# Altium integrated library Elantec Amplifier Buffer.IntLib: 54 symbols
Pins are listed as number, name and electrical type; pins without a type are passive.

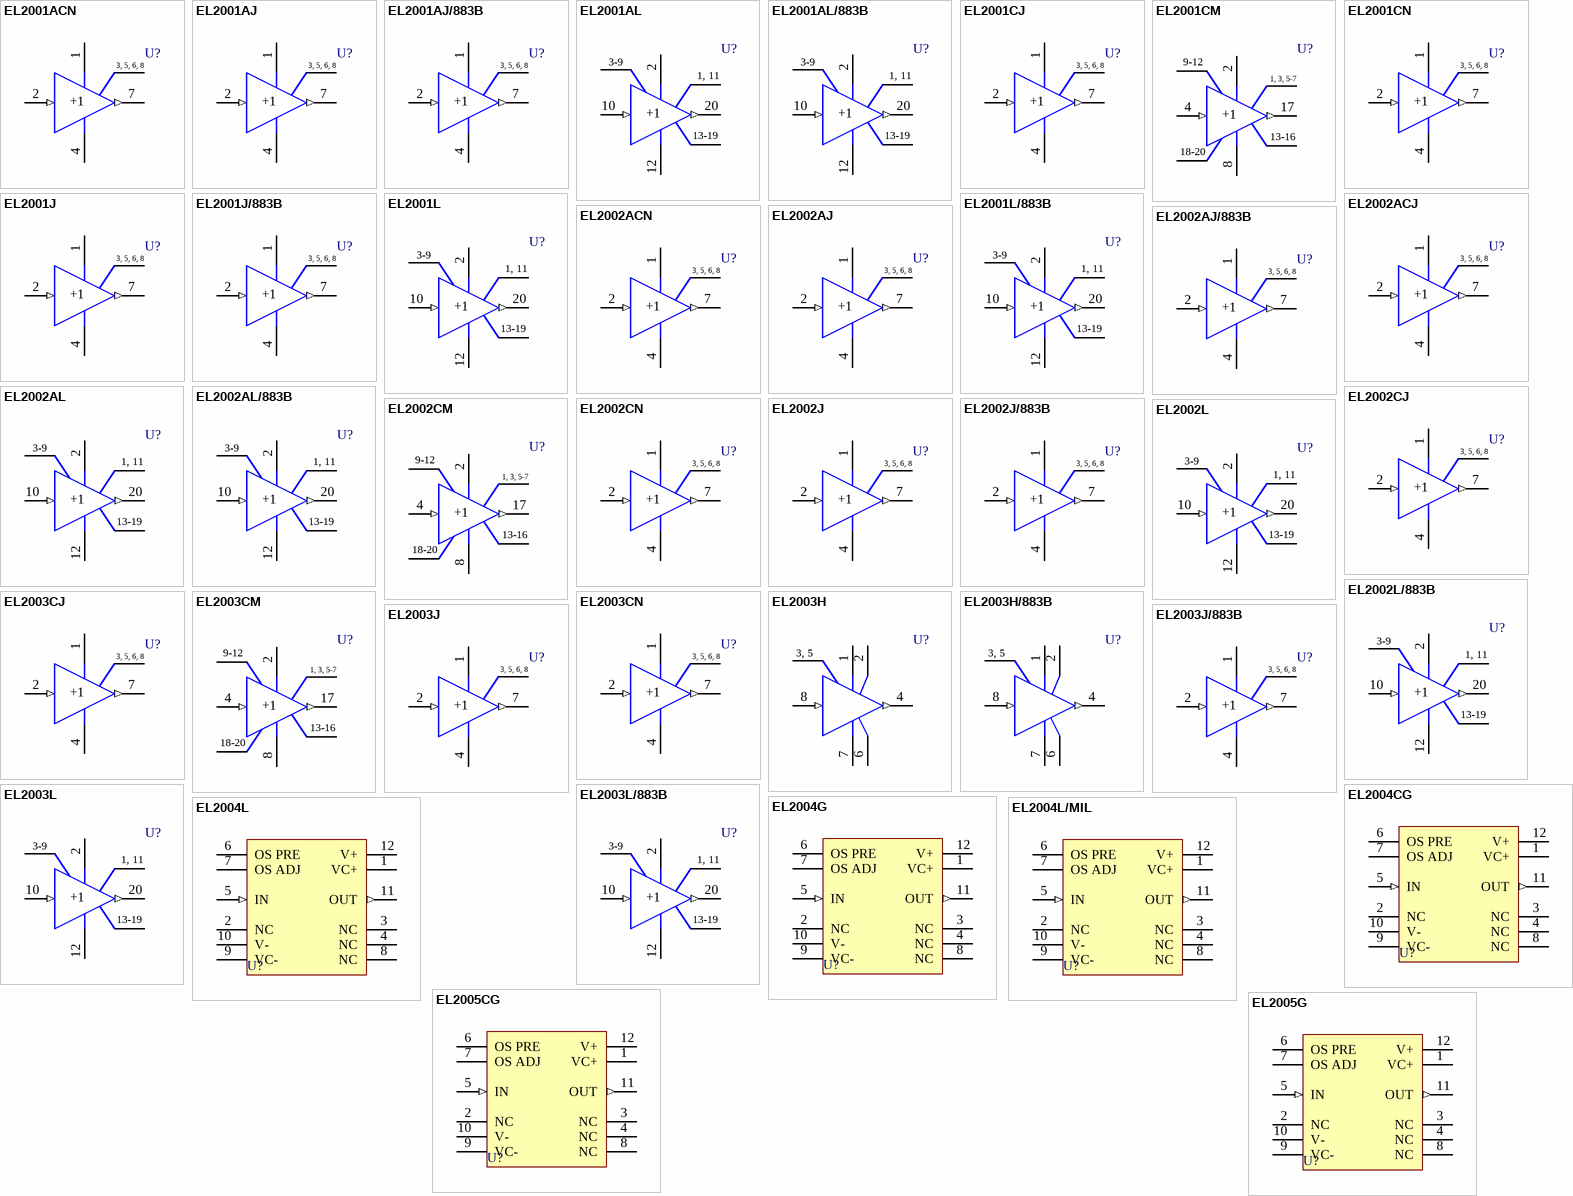
[diagram p0: symbols EL2001ACN to EL2005G]

## EL2001ACN
designator U?
Low Power, 70 MHz Buffer Amplifier; Published: 8-Jun-2000; LatestRevisionDate: 17-Jul-2002; LatestRevisionNote: Re-released for DXP Platform.; DatasheetVersion: Dec-1995; PackageReference: MDP0031-8; Publisher: Altium Limited; PackageDescription: DIP; 8 Leads; Row Spacing 7.62 mm; Pitch 2.54 mm; ComponentLink1Description: Manufacturer Link; ComponentLink1URL: http://www.intersil.com/cda/home/
footprint MDP0031-8 (DIP; 8 Leads; Row Spacing 7.62 mm; Pitch 2.54 mm)
simulation model EL2001 (SUBCKT)
pins: 1 V+ (power), 2 IN (in), 3 NC, 4 V- (power), 5 NC, 6 NC, 7 OUT (out), 8 NC
text: 3, 5, 6, 8; +1

## EL2001AJ
designator U?
Low Power, 70 MHz Buffer Amplifier; Published: 8-Jun-2000; LatestRevisionDate: 04-Mar-2005; LatestRevisionNote: Stylized 3D Model Added.; DatasheetVersion: Jul-1991; PackageReference: MDP0010; Publisher: Altium Limited; PackageDescription: DIP; 8 Leads; Row Spacing 7.62 mm; Pitch 2.54 mm; ComponentLink1Description: Manufacturer Link; ComponentLink1URL: http://www.intersil.com/cda/home/
footprint MDP0010 (DIP; 8 Leads; Row Spacing 7.62 mm; Pitch 2.54 mm)
3D model MDP0010 (DIP; 8 Leads; Row Spacing 7.62 mm; Pitch 2.54 mm)
simulation model EL2001 (SUBCKT)
pins: 1 V+ (power), 2 IN (in), 3 NC, 4 V- (power), 5 NC, 6 NC, 7 OUT (out), 8 NC
text: 3, 5, 6, 8; +1

## EL2001AJ/883B
designator U?
Low Power, 70 MHz Buffer Amplifier; Published: 8-Jun-2000; LatestRevisionDate: 04-Mar-2005; LatestRevisionNote: Stylized 3D Model Added.; DatasheetVersion: Jul-1991; PackageReference: MDP0010; Publisher: Altium Limited; PackageDescription: DIP; 8 Leads; Row Spacing 7.62 mm; Pitch 2.54 mm; ComponentLink1Description: Manufacturer Link; ComponentLink1URL: http://www.intersil.com/cda/home/
footprint MDP0010 (DIP; 8 Leads; Row Spacing 7.62 mm; Pitch 2.54 mm)
3D model MDP0010 (DIP; 8 Leads; Row Spacing 7.62 mm; Pitch 2.54 mm)
simulation model EL2001 (SUBCKT)
pins: 1 V+ (power), 2 IN (in), 3 NC, 4 V- (power), 5 NC, 6 NC, 7 OUT (out), 8 NC
text: 3, 5, 6, 8; +1

## EL2001AL
designator U?
Low Power, 70 MHz Buffer Amplifier; Published: 8-Jun-2000; LatestRevisionDate: 17-Jul-2002; LatestRevisionNote: Re-released for DXP Platform.; DatasheetVersion: Jul-1991; PackageVersion: 1993; PackageReference: MDP0007; Publisher: Altium Limited; PackageDescription: Leadless Chip Carrier; 20 Terminals; Body 8.9 x 8.9 mm; ComponentLink1Description: Manufacturer Link; ComponentLink1URL: http://www.intersil.com/cda/home/
footprint MDP0007 (Leadless Chip Carrier; 20 Terminals; Body 8.9 x 8.9 mm)
simulation model EL2001 (SUBCKT)
pins: 1 NC, 2 V+ (power), 3 NC, 4 NC, 5 NC, 6 NC, 7 NC, 8 NC, 9 NC, 10 +IN (in), 11 NC, 12 V- (power), 13 NC, 14 NC, 15 NC, 16 NC, 17 NC, 18 NC, 19 NC, 20 OUT (out)
text: 3-9; 1, 11; +1; 13-19

## EL2001AL/883B
designator U?
Low Power, 70 MHz Buffer Amplifier; Published: 8-Jun-2000; LatestRevisionDate: 17-Jul-2002; LatestRevisionNote: Re-released for DXP Platform.; DatasheetVersion: Jul-1991; PackageVersion: 1993; PackageReference: MDP0007; Publisher: Altium Limited; PackageDescription: Leadless Chip Carrier; 20 Terminals; Body 8.9 x 8.9 mm; ComponentLink1Description: Manufacturer Link; ComponentLink1URL: http://www.intersil.com/cda/home/
footprint MDP0007 (Leadless Chip Carrier; 20 Terminals; Body 8.9 x 8.9 mm)
simulation model EL2001 (SUBCKT)
pins: 1 NC, 2 V+ (power), 3 NC, 4 NC, 5 NC, 6 NC, 7 NC, 8 NC, 9 NC, 10 +IN (in), 11 NC, 12 V- (power), 13 NC, 14 NC, 15 NC, 16 NC, 17 NC, 18 NC, 19 NC, 20 OUT (out)
text: 3-9; 1, 11; +1; 13-19

## EL2001CJ
designator U?
Low Power, 70 MHz Buffer Amplifier; Published: 8-Jun-2000; LatestRevisionDate: 04-Mar-2005; LatestRevisionNote: Stylized 3D Model Added.; DatasheetVersion: Jul-1991; PackageReference: MDP0010; Publisher: Altium Limited; PackageDescription: DIP; 8 Leads; Row Spacing 7.62 mm; Pitch 2.54 mm; ComponentLink1Description: Manufacturer Link; ComponentLink1URL: http://www.intersil.com/cda/home/
footprint MDP0010 (DIP; 8 Leads; Row Spacing 7.62 mm; Pitch 2.54 mm)
3D model MDP0010 (DIP; 8 Leads; Row Spacing 7.62 mm; Pitch 2.54 mm)
simulation model EL2001 (SUBCKT)
pins: 1 V+ (power), 2 IN (in), 3 NC, 4 V- (power), 5 NC, 6 NC, 7 OUT (out), 8 NC
text: 3, 5, 6, 8; +1

## EL2001CM
designator U?
Low Power, 70 MHz Buffer Amplifier; Published: 8-Jun-2000; LatestRevisionDate: 13-Apr-2006; LatestRevisionNote: IPC-7351 Footprint Added.; DatasheetVersion: Dec-1995; PackageReference: SOL-20; Publisher: Altium Limited; PackageDescription: 20-Pin Small Outline Integrated Circuit 1.27 mm Pitch; ComponentLink1Description: Manufacturer Link; ComponentLink1URL: http://www.intersil.com/cda/home/
footprint SOL-20_N (SOIC, 20-Leads, Body 12.8x7.5mm, Pitch 1.27mm, IPC Medium Density)
footprint SOL-20_L (SOIC, 20-Leads, Body 12.8x7.5mm, Pitch 1.27mm, IPC High Density)
footprint SOL-20_M (SOIC, 20-Leads, Body 12.8x7.5mm, Pitch 1.27mm, IPC Low Density)
3D model SOL-20 (20-Pin Small Outline Integrated Circuit 1.27 mm Pitch)
simulation model EL2001 (SUBCKT)
pins: 1 NC, 2 V+ (power), 3 NC, 4 IN (in), 5 NC, 6 NC, 7 NC, 8 V- (power), 9 NC, 10 NC, 11 NC, 12 NC, 13 NC, 14 NC, 15 NC, 16 NC, 17 OUT (out), 18 NC, 19 NC, 20 NC
text: 9-12; 1, 3, 5-7; +1; 13-16; 18-20

## EL2001CN
designator U?
Low Power, 70 MHz Buffer Amplifier; Published: 8-Jun-2000; LatestRevisionDate: 17-Jul-2002; LatestRevisionNote: Re-released for DXP Platform.; DatasheetVersion: Dec-1995; PackageReference: MDP0031-8; Publisher: Altium Limited; PackageDescription: DIP; 8 Leads; Row Spacing 7.62 mm; Pitch 2.54 mm; ComponentLink1Description: Manufacturer Link; ComponentLink1URL: http://www.intersil.com/cda/home/
footprint MDP0031-8 (DIP; 8 Leads; Row Spacing 7.62 mm; Pitch 2.54 mm)
simulation model EL2001 (SUBCKT)
pins: 1 V+ (power), 2 IN (in), 3 NC, 4 V- (power), 5 NC, 6 NC, 7 OUT (out), 8 NC
text: 3, 5, 6, 8; +1

## EL2001J
designator U?
Low Power, 70 MHz Buffer Amplifier; Published: 8-Jun-2000; LatestRevisionDate: 04-Mar-2005; LatestRevisionNote: Stylized 3D Model Added.; DatasheetVersion: Jul-1991; PackageReference: MDP0010; Publisher: Altium Limited; PackageDescription: DIP; 8 Leads; Row Spacing 7.62 mm; Pitch 2.54 mm; ComponentLink1Description: Manufacturer Link; ComponentLink1URL: http://www.intersil.com/cda/home/
footprint MDP0010 (DIP; 8 Leads; Row Spacing 7.62 mm; Pitch 2.54 mm)
3D model MDP0010 (DIP; 8 Leads; Row Spacing 7.62 mm; Pitch 2.54 mm)
simulation model EL2001 (SUBCKT)
pins: 1 V+ (power), 2 IN (in), 3 NC, 4 V- (power), 5 NC, 6 NC, 7 OUT (out), 8 NC
text: 3, 5, 6, 8; +1

## EL2001J/883B
designator U?
Low Power, 70 MHz Buffer Amplifier; Published: 8-Jun-2000; LatestRevisionDate: 04-Mar-2005; LatestRevisionNote: Stylized 3D Model Added.; DatasheetVersion: Jul-1991; PackageReference: MDP0010; Publisher: Altium Limited; PackageDescription: DIP; 8 Leads; Row Spacing 7.62 mm; Pitch 2.54 mm; ComponentLink1Description: Manufacturer Link; ComponentLink1URL: http://www.intersil.com/cda/home/
footprint MDP0010 (DIP; 8 Leads; Row Spacing 7.62 mm; Pitch 2.54 mm)
3D model MDP0010 (DIP; 8 Leads; Row Spacing 7.62 mm; Pitch 2.54 mm)
simulation model EL2001 (SUBCKT)
pins: 1 V+ (power), 2 IN (in), 3 NC, 4 V- (power), 5 NC, 6 NC, 7 OUT (out), 8 NC
text: 3, 5, 6, 8; +1

## EL2001L
designator U?
Low Power, 70 MHz Buffer Amplifier; Published: 8-Jun-2000; LatestRevisionDate: 17-Jul-2002; LatestRevisionNote: Re-released for DXP Platform.; DatasheetVersion: Jul-1991; PackageVersion: 1993; PackageReference: MDP0007; Publisher: Altium Limited; PackageDescription: Leadless Chip Carrier; 20 Terminals; Body 8.9 x 8.9 mm; ComponentLink1Description: Manufacturer Link; ComponentLink1URL: http://www.intersil.com/cda/home/
footprint MDP0007 (Leadless Chip Carrier; 20 Terminals; Body 8.9 x 8.9 mm)
simulation model EL2001 (SUBCKT)
pins: 1 NC, 2 V+ (power), 3 NC, 4 NC, 5 NC, 6 NC, 7 NC, 8 NC, 9 NC, 10 +IN (in), 11 NC, 12 V- (power), 13 NC, 14 NC, 15 NC, 16 NC, 17 NC, 18 NC, 19 NC, 20 OUT (out)
text: 3-9; 1, 11; +1; 13-19

## EL2001L/883B
designator U?
Low Power, 70 MHz Buffer Amplifier; Published: 8-Jun-2000; LatestRevisionDate: 17-Jul-2002; LatestRevisionNote: Re-released for DXP Platform.; DatasheetVersion: Jul-1991; PackageVersion: 1993; PackageReference: MDP0007; Publisher: Altium Limited; PackageDescription: Leadless Chip Carrier; 20 Terminals; Body 8.9 x 8.9 mm; ComponentLink1Description: Manufacturer Link; ComponentLink1URL: http://www.intersil.com/cda/home/
footprint MDP0007 (Leadless Chip Carrier; 20 Terminals; Body 8.9 x 8.9 mm)
simulation model EL2001 (SUBCKT)
pins: 1 NC, 2 V+ (power), 3 NC, 4 NC, 5 NC, 6 NC, 7 NC, 8 NC, 9 NC, 10 +IN (in), 11 NC, 12 V- (power), 13 NC, 14 NC, 15 NC, 16 NC, 17 NC, 18 NC, 19 NC, 20 OUT (out)
text: 3-9; 1, 11; +1; 13-19

## EL2002ACJ
designator U?
Low Power, 180 MHz Buffer Amplifier; Published: 8-Jun-2000; LatestRevisionDate: 04-Mar-2005; LatestRevisionNote: Stylized 3D Model Added.; DatasheetVersion: Jul-1991; PackageReference: MDP0010; Publisher: Altium Limited; PackageDescription: DIP; 8 Leads; Row Spacing 7.62 mm; Pitch 2.54 mm; ComponentLink1Description: Manufacturer Link; ComponentLink1URL: http://www.intersil.com/cda/home/
footprint MDP0010 (DIP; 8 Leads; Row Spacing 7.62 mm; Pitch 2.54 mm)
3D model MDP0010 (DIP; 8 Leads; Row Spacing 7.62 mm; Pitch 2.54 mm)
simulation model EL2002 (SUBCKT)
pins: 1 V+ (power), 2 IN (in), 3 NC, 4 V- (power), 5 NC, 6 NC, 7 OUT (out), 8 NC
text: 3, 5, 6, 8; +1

## EL2002ACN
designator U?
Low Power, 180 MHz Buffer Amplifier; Published: 8-Jun-2000; LatestRevisionDate: 17-Jul-2002; LatestRevisionNote: Re-released for DXP Platform.; DatasheetVersion: Dec-1995; PackageReference: MDP0031-8; Publisher: Altium Limited; PackageDescription: DIP; 8 Leads; Row Spacing 7.62 mm; Pitch 2.54 mm; ComponentLink1Description: Manufacturer Link; ComponentLink1URL: http://www.intersil.com/cda/home/
footprint MDP0031-8 (DIP; 8 Leads; Row Spacing 7.62 mm; Pitch 2.54 mm)
simulation model EL2002 (SUBCKT)
pins: 1 V+ (power), 2 IN (in), 3 NC, 4 V- (power), 5 NC, 6 NC, 7 OUT (out), 8 NC
text: 3, 5, 6, 8; +1

## EL2002AJ
designator U?
Low Power, 180 MHz Buffer Amplifier; Published: 8-Jun-2000; LatestRevisionDate: 04-Mar-2005; LatestRevisionNote: Stylized 3D Model Added.; DatasheetVersion: Jul-1991; PackageReference: MDP0010; Publisher: Altium Limited; PackageDescription: DIP; 8 Leads; Row Spacing 7.62 mm; Pitch 2.54 mm; ComponentLink1Description: Manufacturer Link; ComponentLink1URL: http://www.intersil.com/cda/home/
footprint MDP0010 (DIP; 8 Leads; Row Spacing 7.62 mm; Pitch 2.54 mm)
3D model MDP0010 (DIP; 8 Leads; Row Spacing 7.62 mm; Pitch 2.54 mm)
simulation model EL2002 (SUBCKT)
pins: 1 V+ (power), 2 IN (in), 3 NC, 4 V- (power), 5 NC, 6 NC, 7 OUT (out), 8 NC
text: 3, 5, 6, 8; +1

## EL2002AJ/883B
designator U?
Low Power, 180 MHz Buffer Amplifier; Published: 8-Jun-2000; LatestRevisionDate: 04-Mar-2005; LatestRevisionNote: Stylized 3D Model Added.; DatasheetVersion: Jul-1991; PackageReference: MDP0010; Publisher: Altium Limited; PackageDescription: DIP; 8 Leads; Row Spacing 7.62 mm; Pitch 2.54 mm; ComponentLink1Description: Manufacturer Link; ComponentLink1URL: http://www.intersil.com/cda/home/
footprint MDP0010 (DIP; 8 Leads; Row Spacing 7.62 mm; Pitch 2.54 mm)
3D model MDP0010 (DIP; 8 Leads; Row Spacing 7.62 mm; Pitch 2.54 mm)
simulation model EL2002 (SUBCKT)
pins: 1 V+ (power), 2 IN (in), 3 NC, 4 V- (power), 5 NC, 6 NC, 7 OUT (out), 8 NC
text: 3, 5, 6, 8; +1

## EL2002AL
designator U?
Low Power, 180 MHz Buffer Amplifier; Published: 8-Jun-2000; LatestRevisionDate: 17-Jul-2002; LatestRevisionNote: Re-released for DXP Platform.; DatasheetVersion: Jul-1991; PackageVersion: 1993; PackageReference: MDP0007; Publisher: Altium Limited; PackageDescription: Leadless Chip Carrier; 20 Terminals; Body 8.9 x 8.9 mm; ComponentLink1Description: Manufacturer Link; ComponentLink1URL: http://www.intersil.com/cda/home/
footprint MDP0007 (Leadless Chip Carrier; 20 Terminals; Body 8.9 x 8.9 mm)
simulation model EL2002 (SUBCKT)
pins: 1 NC, 2 V+ (power), 3 NC, 4 NC, 5 NC, 6 NC, 7 NC, 8 NC, 9 NC, 10 +IN (in), 11 NC, 12 V- (power), 13 NC, 14 NC, 15 NC, 16 NC, 17 NC, 18 NC, 19 NC, 20 OUT (out)
text: 3-9; 1, 11; +1; 13-19

## EL2002AL/883B
designator U?
Low Power, 180 MHz Buffer Amplifier; Published: 8-Jun-2000; LatestRevisionDate: 17-Jul-2002; LatestRevisionNote: Re-released for DXP Platform.; DatasheetVersion: Jul-1991; PackageVersion: 1993; PackageReference: MDP0007; Publisher: Altium Limited; PackageDescription: Leadless Chip Carrier; 20 Terminals; Body 8.9 x 8.9 mm; ComponentLink1Description: Manufacturer Link; ComponentLink1URL: http://www.intersil.com/cda/home/
footprint MDP0007 (Leadless Chip Carrier; 20 Terminals; Body 8.9 x 8.9 mm)
simulation model EL2002 (SUBCKT)
pins: 1 NC, 2 V+ (power), 3 NC, 4 NC, 5 NC, 6 NC, 7 NC, 8 NC, 9 NC, 10 +IN (in), 11 NC, 12 V- (power), 13 NC, 14 NC, 15 NC, 16 NC, 17 NC, 18 NC, 19 NC, 20 OUT (out)
text: 3-9; 1, 11; +1; 13-19

## EL2002CJ
designator U?
Low Power, 180 MHz Buffer Amplifier; Published: 8-Jun-2000; LatestRevisionDate: 04-Mar-2005; LatestRevisionNote: Stylized 3D Model Added.; DatasheetVersion: Jul-1991; PackageReference: MDP0010; Publisher: Altium Limited; PackageDescription: DIP; 8 Leads; Row Spacing 7.62 mm; Pitch 2.54 mm; ComponentLink1Description: Manufacturer Link; ComponentLink1URL: http://www.intersil.com/cda/home/
footprint MDP0010 (DIP; 8 Leads; Row Spacing 7.62 mm; Pitch 2.54 mm)
3D model MDP0010 (DIP; 8 Leads; Row Spacing 7.62 mm; Pitch 2.54 mm)
simulation model EL2002 (SUBCKT)
pins: 1 V+ (power), 2 IN (in), 3 NC, 4 V- (power), 5 NC, 6 NC, 7 OUT (out), 8 NC
text: 3, 5, 6, 8; +1

## EL2002CM
designator U?
Low Power, 180 MHz Buffer Amplifier; Published: 8-Jun-2000; LatestRevisionDate: 13-Apr-2006; LatestRevisionNote: IPC-7351 Footprint Added.; DatasheetVersion: Dec-1995; PackageReference: SOL-20; Publisher: Altium Limited; PackageDescription: 20-Pin Small Outline Integrated Circuit 1.27 mm Pitch; ComponentLink1Description: Manufacturer Link; ComponentLink1URL: http://www.intersil.com/cda/home/
footprint SOL-20_N (SOIC, 20-Leads, Body 12.8x7.5mm, Pitch 1.27mm, IPC Medium Density)
footprint SOL-20_L (SOIC, 20-Leads, Body 12.8x7.5mm, Pitch 1.27mm, IPC High Density)
footprint SOL-20_M (SOIC, 20-Leads, Body 12.8x7.5mm, Pitch 1.27mm, IPC Low Density)
3D model SOL-20 (20-Pin Small Outline Integrated Circuit 1.27 mm Pitch)
simulation model EL2002 (SUBCKT)
pins: 1 NC, 2 V+ (power), 3 NC, 4 IN (in), 5 NC, 6 NC, 7 NC, 8 V- (power), 9 NC, 10 NC, 11 NC, 12 NC, 13 NC, 14 NC, 15 NC, 16 NC, 17 OUT (out), 18 NC, 19 NC, 20 NC
text: 9-12; 1, 3, 5-7; +1; 13-16; 18-20

## EL2002CN
designator U?
Low Power, 180 MHz Buffer Amplifier; Published: 8-Jun-2000; LatestRevisionDate: 17-Jul-2002; LatestRevisionNote: Re-released for DXP Platform.; DatasheetVersion: Dec-1995; PackageReference: MDP0031-8; Publisher: Altium Limited; PackageDescription: DIP; 8 Leads; Row Spacing 7.62 mm; Pitch 2.54 mm; ComponentLink1Description: Manufacturer Link; ComponentLink1URL: http://www.intersil.com/cda/home/
footprint MDP0031-8 (DIP; 8 Leads; Row Spacing 7.62 mm; Pitch 2.54 mm)
simulation model EL2002 (SUBCKT)
pins: 1 V+ (power), 2 IN (in), 3 NC, 4 V- (power), 5 NC, 6 NC, 7 OUT (out), 8 NC
text: 3, 5, 6, 8; +1

## EL2002J
designator U?
Low Power, 180 MHz Buffer Amplifier; Published: 8-Jun-2000; LatestRevisionDate: 04-Mar-2005; LatestRevisionNote: Stylized 3D Model Added.; DatasheetVersion: Jul-1991; PackageReference: MDP0010; Publisher: Altium Limited; PackageDescription: DIP; 8 Leads; Row Spacing 7.62 mm; Pitch 2.54 mm; ComponentLink1Description: Manufacturer Link; ComponentLink1URL: http://www.intersil.com/cda/home/
footprint MDP0010 (DIP; 8 Leads; Row Spacing 7.62 mm; Pitch 2.54 mm)
3D model MDP0010 (DIP; 8 Leads; Row Spacing 7.62 mm; Pitch 2.54 mm)
simulation model EL2002 (SUBCKT)
pins: 1 V+ (power), 2 IN (in), 3 NC, 4 V- (power), 5 NC, 6 NC, 7 OUT (out), 8 NC
text: 3, 5, 6, 8; +1

## EL2002J/883B
designator U?
Low Power, 180 MHz Buffer Amplifier; Published: 8-Jun-2000; LatestRevisionDate: 04-Mar-2005; LatestRevisionNote: Stylized 3D Model Added.; DatasheetVersion: Jul-1991; PackageReference: MDP0010; Publisher: Altium Limited; PackageDescription: DIP; 8 Leads; Row Spacing 7.62 mm; Pitch 2.54 mm; ComponentLink1Description: Manufacturer Link; ComponentLink1URL: http://www.intersil.com/cda/home/
footprint MDP0010 (DIP; 8 Leads; Row Spacing 7.62 mm; Pitch 2.54 mm)
3D model MDP0010 (DIP; 8 Leads; Row Spacing 7.62 mm; Pitch 2.54 mm)
simulation model EL2002 (SUBCKT)
pins: 1 V+ (power), 2 IN (in), 3 NC, 4 V- (power), 5 NC, 6 NC, 7 OUT (out), 8 NC
text: 3, 5, 6, 8; +1

## EL2002L
designator U?
Low Power, 180 MHz Buffer Amplifier; Published: 8-Jun-2000; LatestRevisionDate: 17-Jul-2002; LatestRevisionNote: Re-released for DXP Platform.; DatasheetVersion: Jul-1991; PackageVersion: 1993; PackageReference: MDP0007; Publisher: Altium Limited; PackageDescription: Leadless Chip Carrier; 20 Terminals; Body 8.9 x 8.9 mm; ComponentLink1Description: Manufacturer Link; ComponentLink1URL: http://www.intersil.com/cda/home/
footprint MDP0007 (Leadless Chip Carrier; 20 Terminals; Body 8.9 x 8.9 mm)
simulation model EL2002 (SUBCKT)
pins: 1 NC, 2 V+ (power), 3 NC, 4 NC, 5 NC, 6 NC, 7 NC, 8 NC, 9 NC, 10 +IN (in), 11 NC, 12 V- (power), 13 NC, 14 NC, 15 NC, 16 NC, 17 NC, 18 NC, 19 NC, 20 OUT (out)
text: 3-9; 1, 11; +1; 13-19

## EL2002L/883B
designator U?
Low Power, 180 MHz Buffer Amplifier; Published: 8-Jun-2000; LatestRevisionDate: 17-Jul-2002; LatestRevisionNote: Re-released for DXP Platform.; DatasheetVersion: Jul-1991; PackageVersion: 1993; PackageReference: MDP0007; Publisher: Altium Limited; PackageDescription: Leadless Chip Carrier; 20 Terminals; Body 8.9 x 8.9 mm; ComponentLink1Description: Manufacturer Link; ComponentLink1URL: http://www.intersil.com/cda/home/
footprint MDP0007 (Leadless Chip Carrier; 20 Terminals; Body 8.9 x 8.9 mm)
simulation model EL2002 (SUBCKT)
pins: 1 NC, 2 V+ (power), 3 NC, 4 NC, 5 NC, 6 NC, 7 NC, 8 NC, 9 NC, 10 +IN (in), 11 NC, 12 V- (power), 13 NC, 14 NC, 15 NC, 16 NC, 17 NC, 18 NC, 19 NC, 20 OUT (out)
text: 3-9; 1, 11; +1; 13-19

## EL2003CJ
designator U?
100 MHz Video Line Driver; Published: 8-Jun-2000; LatestRevisionDate: 04-Mar-2005; LatestRevisionNote: Stylized 3D Model Added.; DatasheetVersion: Jul-1991; PackageReference: MDP0010; Publisher: Altium Limited; PackageDescription: DIP; 8 Leads; Row Spacing 7.62 mm; Pitch 2.54 mm; ComponentLink1Description: Manufacturer Link; ComponentLink1URL: http://www.intersil.com/cda/home/
footprint MDP0010 (DIP; 8 Leads; Row Spacing 7.62 mm; Pitch 2.54 mm)
3D model MDP0010 (DIP; 8 Leads; Row Spacing 7.62 mm; Pitch 2.54 mm)
simulation model EL2003 (SUBCKT)
pins: 1 V+ (power), 2 IN (in), 3 NC, 4 V- (power), 5 NC, 6 NC, 7 OUT (out), 8 NC
text: 3, 5, 6, 8; +1

## EL2003CM
designator U?
100 MHz Video Line Driver; Published: 8-Jun-2000; LatestRevisionDate: 13-Apr-2006; LatestRevisionNote: IPC-7351 Footprint Added.; DatasheetVersion: Jan-1996; PackageReference: SOL-20; Publisher: Altium Limited; PackageDescription: 20-Pin Small Outline Integrated Circuit 1.27 mm Pitch; ComponentLink1Description: Manufacturer Link; ComponentLink1URL: http://www.intersil.com/cda/home/
footprint SOL-20_N (SOIC, 20-Leads, Body 12.8x7.5mm, Pitch 1.27mm, IPC Medium Density)
footprint SOL-20_L (SOIC, 20-Leads, Body 12.8x7.5mm, Pitch 1.27mm, IPC High Density)
footprint SOL-20_M (SOIC, 20-Leads, Body 12.8x7.5mm, Pitch 1.27mm, IPC Low Density)
3D model SOL-20 (20-Pin Small Outline Integrated Circuit 1.27 mm Pitch)
simulation model EL2003 (SUBCKT)
pins: 1 NC, 2 V+ (power), 3 NC, 4 IN (in), 5 NC, 6 NC, 7 NC, 8 V- (power), 9 NC, 10 NC, 11 NC, 12 NC, 13 NC, 14 NC, 15 NC, 16 NC, 17 OUT (out), 18 NC, 19 NC, 20 NC
text: 9-12; 1, 3, 5-7; +1; 13-16; 18-20

## EL2003CN
designator U?
100 MHz Video Line Driver; Published: 8-Jun-2000; LatestRevisionDate: 17-Jul-2002; LatestRevisionNote: Re-released for DXP Platform.; DatasheetVersion: Jan-1996; PackageReference: MDP0031-8; Publisher: Altium Limited; PackageDescription: DIP; 8 Leads; Row Spacing 7.62 mm; Pitch 2.54 mm; ComponentLink1Description: Manufacturer Link; ComponentLink1URL: http://www.intersil.com/cda/home/
footprint MDP0031-8 (DIP; 8 Leads; Row Spacing 7.62 mm; Pitch 2.54 mm)
simulation model EL2003 (SUBCKT)
pins: 1 V+ (power), 2 IN (in), 3 NC, 4 V- (power), 5 NC, 6 NC, 7 OUT (out), 8 NC
text: 3, 5, 6, 8; +1

## EL2003H
designator U?
100 MHz Video Line Driver; Note: Pins 3 and 5 are No Connection; Published: 8-Jun-2000; LatestRevisionDate: 17-Jul-2002; LatestRevisionNote: Re-released for DXP Platform.; DatasheetVersion: Jul-1991; PackageVersion: 1993; PackageReference: MDP0004; Publisher: Altium Limited; PackageDescription: Can; 8 Leads; Pin Circle Dia. 5.08 mm; Lead Dia. 0.53 mm (max); ComponentLink1Description: Manufacturer Link; ComponentLink1URL: http://www.intersil.com/cda/home/
footprint MDP0004 (Can; 8 Leads; Pin Circle Dia. 5.08 mm; Lead Dia. 0.53 mm (max))
simulation model EL2003 (SUBCKT)
pins: 1 V1+ (power), 2 V2+ (power), 3 NC, 4 OUT (out), 5 NC, 6 V2- (power), 7 V1- (power), 8 IN (in)
text: 3, 5

## EL2003H/883B
designator U?
100 MHz Video Line Driver; Note: Pins 3 and 5 are No Connection; Published: 8-Jun-2000; LatestRevisionDate: 17-Jul-2002; LatestRevisionNote: Re-released for DXP Platform.; DatasheetVersion: Jul-1991; PackageVersion: 1993; PackageReference: MDP0004; Publisher: Altium Limited; PackageDescription: Can; 8 Leads; Pin Circle Dia. 5.08 mm; Lead Dia. 0.53 mm (max); ComponentLink1Description: Manufacturer Link; ComponentLink1URL: http://www.intersil.com/cda/home/
footprint MDP0004 (Can; 8 Leads; Pin Circle Dia. 5.08 mm; Lead Dia. 0.53 mm (max))
simulation model EL2003 (SUBCKT)
pins: 1 V1+ (power), 2 V2+ (power), 3 NC, 4 OUT (out), 5 NC, 6 V2- (power), 7 V1- (power), 8 IN (in)
text: 3, 5

## EL2003J
designator U?
100 MHz Video Line Driver; Published: 8-Jun-2000; LatestRevisionDate: 04-Mar-2005; LatestRevisionNote: Stylized 3D Model Added.; DatasheetVersion: Jul-1991; PackageReference: MDP0010; Publisher: Altium Limited; PackageDescription: DIP; 8 Leads; Row Spacing 7.62 mm; Pitch 2.54 mm; ComponentLink1Description: Manufacturer Link; ComponentLink1URL: http://www.intersil.com/cda/home/
footprint MDP0010 (DIP; 8 Leads; Row Spacing 7.62 mm; Pitch 2.54 mm)
3D model MDP0010 (DIP; 8 Leads; Row Spacing 7.62 mm; Pitch 2.54 mm)
simulation model EL2003 (SUBCKT)
pins: 1 V+ (power), 2 IN (in), 3 NC, 4 V- (power), 5 NC, 6 NC, 7 OUT (out), 8 NC
text: 3, 5, 6, 8; +1

## EL2003J/883B
designator U?
100 MHz Video Line Driver; Published: 8-Jun-2000; LatestRevisionDate: 04-Mar-2005; LatestRevisionNote: Stylized 3D Model Added.; DatasheetVersion: Jul-1991; PackageReference: MDP0010; Publisher: Altium Limited; PackageDescription: DIP; 8 Leads; Row Spacing 7.62 mm; Pitch 2.54 mm; ComponentLink1Description: Manufacturer Link; ComponentLink1URL: http://www.intersil.com/cda/home/
footprint MDP0010 (DIP; 8 Leads; Row Spacing 7.62 mm; Pitch 2.54 mm)
3D model MDP0010 (DIP; 8 Leads; Row Spacing 7.62 mm; Pitch 2.54 mm)
simulation model EL2003 (SUBCKT)
pins: 1 V+ (power), 2 IN (in), 3 NC, 4 V- (power), 5 NC, 6 NC, 7 OUT (out), 8 NC
text: 3, 5, 6, 8; +1

## EL2003L
designator U?
100 MHz Video Line Driver; Published: 8-Jun-2000; LatestRevisionDate: 17-Jul-2002; LatestRevisionNote: Re-released for DXP Platform.; DatasheetVersion: Jul-1991; PackageVersion: 1993; PackageReference: MDP0007; Publisher: Altium Limited; PackageDescription: Leadless Chip Carrier; 20 Terminals; Body 8.9 x 8.9 mm; ComponentLink1Description: Manufacturer Link; ComponentLink1URL: http://www.intersil.com/cda/home/
footprint MDP0007 (Leadless Chip Carrier; 20 Terminals; Body 8.9 x 8.9 mm)
simulation model EL2003 (SUBCKT)
pins: 1 NC, 2 V+ (power), 3 NC, 4 NC, 5 NC, 6 NC, 7 NC, 8 NC, 9 NC, 10 +IN (in), 11 NC, 12 V- (power), 13 NC, 14 NC, 15 NC, 16 NC, 17 NC, 18 NC, 19 NC, 20 OUT (out)
text: 3-9; 1, 11; +1; 13-19

## EL2003L/883B
designator U?
100 MHz Video Line Driver; Published: 8-Jun-2000; LatestRevisionDate: 17-Jul-2002; LatestRevisionNote: Re-released for DXP Platform.; DatasheetVersion: Jul-1991; PackageVersion: 1993; PackageReference: MDP0007; Publisher: Altium Limited; PackageDescription: Leadless Chip Carrier; 20 Terminals; Body 8.9 x 8.9 mm; ComponentLink1Description: Manufacturer Link; ComponentLink1URL: http://www.intersil.com/cda/home/
footprint MDP0007 (Leadless Chip Carrier; 20 Terminals; Body 8.9 x 8.9 mm)
simulation model EL2003 (SUBCKT)
pins: 1 NC, 2 V+ (power), 3 NC, 4 NC, 5 NC, 6 NC, 7 NC, 8 NC, 9 NC, 10 +IN (in), 11 NC, 12 V- (power), 13 NC, 14 NC, 15 NC, 16 NC, 17 NC, 18 NC, 19 NC, 20 OUT (out)
text: 3-9; 1, 11; +1; 13-19

## EL2004CG
designator U?
350 MHz FET Buffer; Published: 8-Jun-2000; LatestRevisionDate: 17-Jul-2002; LatestRevisionNote: Re-released for DXP Platform.; DatasheetVersion: Nov-1993; PackageVersion: 1993; PackageReference: MDP0002; Publisher: Altium Limited; PackageDescription: Can; 12 Leads; 10.16 mm Square Array; Lead Dia. 0.48 mm (max); ComponentLink1Description: Manufacturer Link; ComponentLink1URL: http://www.intersil.com/cda/home/
footprint MDP0002 (Can; 12 Leads; 10.16 mm Square Array; Lead Dia. 0.48 mm (max))
pins: 1 VC+, 2 NC, 3 NC, 4 NC, 5 IN (in), 6 OS PRE, 7 OS ADJ, 8 NC, 9 VC- (power), 10 V- (power), 11 OUT (out), 12 V+

## EL2004G
designator U?
350 MHz FET Buffer; Published: 8-Jun-2000; LatestRevisionDate: 17-Jul-2002; LatestRevisionNote: Re-released for DXP Platform.; DatasheetVersion: Nov-1993; PackageVersion: 1993; PackageReference: MDP0002; Publisher: Altium Limited; PackageDescription: Can; 12 Leads; 10.16 mm Square Array; Lead Dia. 0.48 mm (max); ComponentLink1Description: Manufacturer Link; ComponentLink1URL: http://www.intersil.com/cda/home/
footprint MDP0002 (Can; 12 Leads; 10.16 mm Square Array; Lead Dia. 0.48 mm (max))
pins: 1 VC+, 2 NC, 3 NC, 4 NC, 5 IN (in), 6 OS PRE, 7 OS ADJ, 8 NC, 9 VC- (power), 10 V- (power), 11 OUT (out), 12 V+

## EL2004L
designator U?
350 MHz FET Buffer; Published: 8-Jun-2000; LatestRevisionDate: 17-Jul-2002; LatestRevisionNote: Re-released for DXP Platform.; DatasheetVersion: Nov-1993; PackageVersion: 1993; PackageReference: MDP0013; Publisher: Altium Limited; PackageDescription: Leadless Chip Carrier; 52 Terminals; Body 19.1 x 19.1 mm; ComponentLink1Description: Manufacturer Link; ComponentLink1URL: http://www.intersil.com/cda/home/
footprint MDP0013 (Leadless Chip Carrier; 52 Terminals; Body 19.1 x 19.1 mm)
pins: 1 VC+, 2 NC, 3 NC, 4 NC, 5 IN (in), 6 OS PRE, 7 OS ADJ, 8 NC, 9 VC- (power), 10 V- (power), 11 OUT (out), 12 V+

## EL2004L/MIL
designator U?
350 MHz FET Buffer; Published: 8-Jun-2000; LatestRevisionDate: 17-Jul-2002; LatestRevisionNote: Re-released for DXP Platform.; DatasheetVersion: Nov-1993; PackageVersion: 1993; PackageReference: MDP0013; Publisher: Altium Limited; PackageDescription: Leadless Chip Carrier; 52 Terminals; Body 19.1 x 19.1 mm; ComponentLink1Description: Manufacturer Link; ComponentLink1URL: http://www.intersil.com/cda/home/
footprint MDP0013 (Leadless Chip Carrier; 52 Terminals; Body 19.1 x 19.1 mm)
pins: 1 VC+, 2 NC, 3 NC, 4 NC, 5 IN (in), 6 OS PRE, 7 OS ADJ, 8 NC, 9 VC- (power), 10 V- (power), 11 OUT (out), 12 V+

## EL2005CG
designator U?
High Accuracy Fast Buffer; Note: Case is electrically isolated.; Published: 8-Jun-2000; LatestRevisionDate: 17-Jul-2002; LatestRevisionNote: Re-released for DXP Platform.; DatasheetVersion: Jan-1990; PackageVersion: 1993; PackageReference: MDP0002; Publisher: Altium Limited; PackageDescription: Can; 12 Leads; 10.16 mm Square Array; Lead Dia. 0.48 mm (max); ComponentLink1Description: Manufacturer Link; ComponentLink1URL: http://www.intersil.com/cda/home/
footprint MDP0002 (Can; 12 Leads; 10.16 mm Square Array; Lead Dia. 0.48 mm (max))
pins: 1 VC+, 2 NC, 3 NC, 4 NC, 5 IN (in), 6 OS PRE, 7 OS ADJ, 8 NC, 9 VC- (power), 10 V- (power), 11 OUT (out), 12 V+

## EL2005G
designator U?
High Accuracy Fast Buffer; Note: Case is electrically isolated.; Published: 8-Jun-2000; LatestRevisionDate: 17-Jul-2002; LatestRevisionNote: Re-released for DXP Platform.; DatasheetVersion: Jan-1990; PackageVersion: 1993; PackageReference: MDP0002; Publisher: Altium Limited; PackageDescription: Can; 12 Leads; 10.16 mm Square Array; Lead Dia. 0.48 mm (max); ComponentLink1Description: Manufacturer Link; ComponentLink1URL: http://www.intersil.com/cda/home/
footprint MDP0002 (Can; 12 Leads; 10.16 mm Square Array; Lead Dia. 0.48 mm (max))
pins: 1 VC+, 2 NC, 3 NC, 4 NC, 5 IN (in), 6 OS PRE, 7 OS ADJ, 8 NC, 9 VC- (power), 10 V- (power), 11 OUT (out), 12 V+

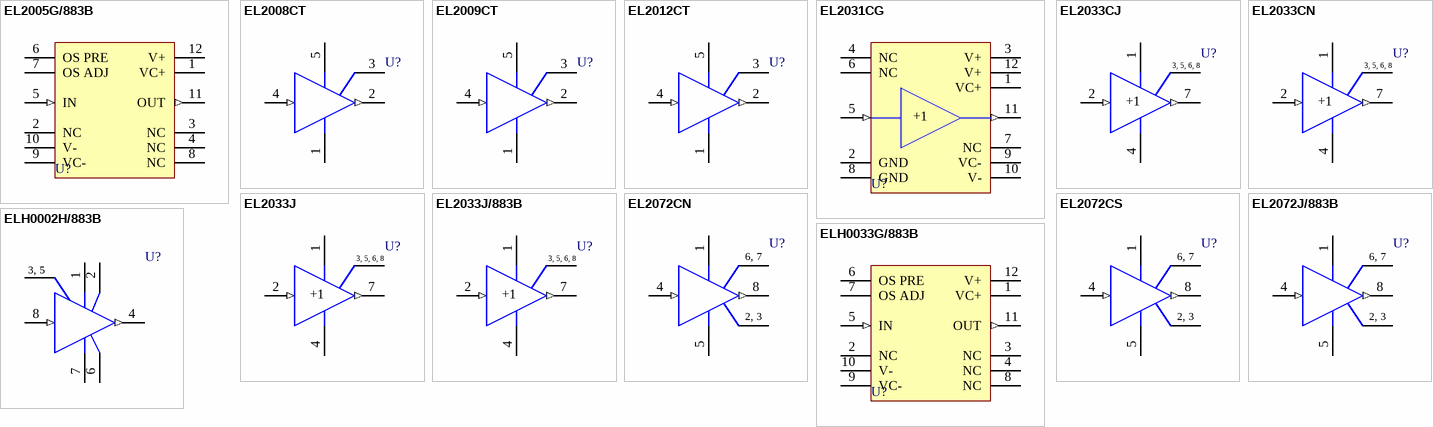
[diagram p1: symbols EL2005G/883B to ELH0033G/883B]

## EL2005G/883B
designator U?
High Accuracy Fast Buffer; Note: Case is electrically isolated.; Published: 8-Jun-2000; LatestRevisionDate: 17-Jul-2002; LatestRevisionNote: Re-released for DXP Platform.; DatasheetVersion: Jan-1990; PackageVersion: 1993; PackageReference: MDP0002; Publisher: Altium Limited; PackageDescription: Can; 12 Leads; 10.16 mm Square Array; Lead Dia. 0.48 mm (max); ComponentLink1Description: Manufacturer Link; ComponentLink1URL: http://www.intersil.com/cda/home/
footprint MDP0002 (Can; 12 Leads; 10.16 mm Square Array; Lead Dia. 0.48 mm (max))
pins: 1 VC+, 2 NC, 3 NC, 4 NC, 5 IN (in), 6 OS PRE, 7 OS ADJ, 8 NC, 9 VC- (power), 10 V- (power), 11 OUT (out), 12 V+

## EL2008CT
designator U?
55 MHz 1 Amp Buffer Amplifier; Published: 8-Jun-2000; LatestRevisionDate: 17-Jul-2002; LatestRevisionNote: PCB Footprint 'DFM-T5/Y2.2V' Replaced; Re-released for DXP Platform.; DatasheetVersion: Dec-1995; PackageVersion: 1997; PackageReference: MDP0028; Publisher: Altium Limited; PackageDescription: TO, Thru-Hole, Vertical, Heatsink Mounted; 5 Bent Staggered Leads; Pitch 1.7 mm; ComponentLink1Description: Manufacturer Link; ComponentLink1URL: http://www.intersil.com/cda/home/
footprint MDP0028 (TO, Thru-Hole, Vertical, Heatsink Mounted; 5 Bent Staggered Leads; Pitch 1.7 mm)
simulation model EL2008 (SUBCKT)
pins: 1 V- (power), 2 OUT (out), 3 TAB, 4 IN (in), 5 V+ (power)

## EL2009CT
designator U?
90 MHz 1 Amp Buffer Amplifier; Published: 8-Jun-2000; LatestRevisionDate: 17-Jul-2002; LatestRevisionNote: PCB Footprint 'DFM-T5/Y2.2V' Replaced; Re-released for DXP Platform.; DatasheetVersion: Dec-1995; PackageVersion: 1997; PackageReference: MDP0028; Publisher: Altium Limited; PackageDescription: TO, Thru-Hole, Vertical, Heatsink Mounted; 5 Bent Staggered Leads; Pitch 1.7 mm; ComponentLink1Description: Manufacturer Link; ComponentLink1URL: http://www.intersil.com/cda/home/
footprint MDP0028 (TO, Thru-Hole, Vertical, Heatsink Mounted; 5 Bent Staggered Leads; Pitch 1.7 mm)
simulation model EL2009 (SUBCKT)
pins: 1 V- (power), 2 OUT (out), 3 TAB, 4 IN (in), 5 V+ (power)

## EL2012CT
designator U?
Closed Loop Buffer; Published: 8-Jun-2000; LatestRevisionDate: 17-Jul-2002; LatestRevisionNote: PCB Footprint 'DFM-T5/Y2.2V' Replaced; Re-released for DXP Platform.; DatasheetVersion: Jul-1991; PackageVersion: 1997; PackageReference: MDP0028; Publisher: Altium Limited; PackageDescription: TO, Thru-Hole, Vertical, Heatsink Mounted; 5 Bent Staggered Leads; Pitch 1.7 mm; ComponentLink1Description: Manufacturer Link; ComponentLink1URL: http://www.intersil.com/cda/home/
footprint MDP0028 (TO, Thru-Hole, Vertical, Heatsink Mounted; 5 Bent Staggered Leads; Pitch 1.7 mm)
pins: 1 V- (power), 2 OUT (out), 3 TAB, 4 IN (in), 5 V+ (power)

## EL2031CG
designator U?
550 MHz Buffer Amplifier; Published: 8-Jun-2000; LatestRevisionDate: 17-Jul-2002; LatestRevisionNote: Re-released for DXP Platform.; DatasheetVersion: Jul-1991; PackageVersion: 1993; PackageReference: MDP0026; Publisher: Altium Limited; PackageDescription: Can; 12 Leads; 10.16 mm Square Array; Lead Dia. 0.48 mm (max); ComponentLink1Description: Manufacturer Link; ComponentLink1URL: http://www.intersil.com/cda/home/
footprint MDP0026 (Can; 12 Leads; 10.16 mm Square Array; Lead Dia. 0.48 mm (max))
pins: 1 VC+ (power), 2 GND (power), 3 V+ (power), 4 NC, 5 IN (in), 6 NC, 7 NC, 8 GND (power), 9 VC- (power), 10 V- (power), 11 OUT (out), 12 V+ (power)
text: +1

## EL2033CJ
designator U?
100 MHz Video Line Driver; Published: 8-Jun-2000; LatestRevisionDate: 04-Mar-2005; LatestRevisionNote: Stylized 3D Model Added.; DatasheetVersion: Jul-1991; PackageReference: MDP0010; Publisher: Altium Limited; PackageDescription: DIP; 8 Leads; Row Spacing 7.62 mm; Pitch 2.54 mm; ComponentLink1Description: Manufacturer Link; ComponentLink1URL: http://www.intersil.com/cda/home/
footprint MDP0010 (DIP; 8 Leads; Row Spacing 7.62 mm; Pitch 2.54 mm)
3D model MDP0010 (DIP; 8 Leads; Row Spacing 7.62 mm; Pitch 2.54 mm)
pins: 1 V+ (power), 2 IN (in), 3 NC, 4 V- (power), 5 NC, 6 NC, 7 OUT (out), 8 NC
text: 3, 5, 6, 8; +1

## EL2033CN
designator U?
100 MHz Video Line Driver; Published: 8-Jun-2000; LatestRevisionDate: 17-Jul-2002; LatestRevisionNote: Re-released for DXP Platform.; DatasheetVersion: Jan-1996; PackageReference: MDP0031-8; Publisher: Altium Limited; PackageDescription: DIP; 8 Leads; Row Spacing 7.62 mm; Pitch 2.54 mm; ComponentLink1Description: Manufacturer Link; ComponentLink1URL: http://www.intersil.com/cda/home/
footprint MDP0031-8 (DIP; 8 Leads; Row Spacing 7.62 mm; Pitch 2.54 mm)
pins: 1 V+ (power), 2 IN (in), 3 NC, 4 V- (power), 5 NC, 6 NC, 7 OUT (out), 8 NC
text: 3, 5, 6, 8; +1

## EL2033J
designator U?
100 MHz Video Line Driver; Published: 8-Jun-2000; LatestRevisionDate: 04-Mar-2005; LatestRevisionNote: Stylized 3D Model Added.; DatasheetVersion: Jul-1991; PackageReference: MDP0010; Publisher: Altium Limited; PackageDescription: DIP; 8 Leads; Row Spacing 7.62 mm; Pitch 2.54 mm; ComponentLink1Description: Manufacturer Link; ComponentLink1URL: http://www.intersil.com/cda/home/
footprint MDP0010 (DIP; 8 Leads; Row Spacing 7.62 mm; Pitch 2.54 mm)
3D model MDP0010 (DIP; 8 Leads; Row Spacing 7.62 mm; Pitch 2.54 mm)
pins: 1 V+ (power), 2 IN (in), 3 NC, 4 V- (power), 5 NC, 6 NC, 7 OUT (out), 8 NC
text: 3, 5, 6, 8; +1

## EL2033J/883B
designator U?
100 MHz Video Line Driver; Published: 8-Jun-2000; LatestRevisionDate: 04-Mar-2005; LatestRevisionNote: Stylized 3D Model Added.; DatasheetVersion: Jul-1991; PackageReference: MDP0010; Publisher: Altium Limited; PackageDescription: DIP; 8 Leads; Row Spacing 7.62 mm; Pitch 2.54 mm; ComponentLink1Description: Manufacturer Link; ComponentLink1URL: http://www.intersil.com/cda/home/
footprint MDP0010 (DIP; 8 Leads; Row Spacing 7.62 mm; Pitch 2.54 mm)
3D model MDP0010 (DIP; 8 Leads; Row Spacing 7.62 mm; Pitch 2.54 mm)
pins: 1 V+ (power), 2 IN (in), 3 NC, 4 V- (power), 5 NC, 6 NC, 7 OUT (out), 8 NC
text: 3, 5, 6, 8; +1

## EL2072CN
designator U?
730 MHz Closed Loop Buffer; Published: 8-Jun-2000; LatestRevisionDate: 17-Jul-2002; LatestRevisionNote: Re-released for DXP Platform.; DatasheetVersion: Dec-1995; PackageReference: MDP0031-8; Publisher: Altium Limited; PackageDescription: DIP; 8 Leads; Row Spacing 7.62 mm; Pitch 2.54 mm; ComponentLink1Description: Manufacturer Link; ComponentLink1URL: http://www.intersil.com/cda/home/
footprint MDP0031-8 (DIP; 8 Leads; Row Spacing 7.62 mm; Pitch 2.54 mm)
pins: 1 V+ (power), 2 NC, 3 NC, 4 IN (in), 5 V- (power), 6 NC, 7 NC, 8 OUT (out)
text: 6, 7; 2, 3

## EL2072CS
designator U?
730 MHz Closed Loop Buffer; Published: 8-Jun-2000; LatestRevisionDate: 13-Apr-2006; LatestRevisionNote: IPC-7351 Footprint Added.; DatasheetVersion: Dec-1995; PackageReference: SO-8; Publisher: Altium Limited; PackageDescription: 8-Pin Small Outline Integrated Circuit 1.27 mm Pitch; ComponentLink1Description: Manufacturer Link; ComponentLink1URL: http://www.intersil.com/cda/home/
footprint SO-8_N (SOIC, 8-Leads, Body 4.9x3.9mm, Pitch 1.27mm, IPC Medium Density)
footprint SO-8_L (SOIC, 8-Leads, Body 4.9x3.9mm, Pitch 1.27mm, IPC High Density)
footprint SO-8_M (SOIC, 8-Leads, Body 4.9x3.9mm, Pitch 1.27mm, IPC Low Density)
3D model SO-8 (8-Pin Small Outline Integrated Circuit 1.27 mm Pitch)
pins: 1 V+ (power), 2 NC, 3 NC, 4 IN (in), 5 V- (power), 6 NC, 7 NC, 8 OUT (out)
text: 6, 7; 2, 3

## EL2072J/883B
designator U?
730 MHz Closed Loop Buffer; Published: 8-Jun-2000; LatestRevisionDate: 04-Mar-2005; LatestRevisionNote: Stylized 3D Model Added.; DatasheetVersion: Aug-1992; PackageReference: MDP0010; Publisher: Altium Limited; PackageDescription: DIP; 8 Leads; Row Spacing 7.62 mm; Pitch 2.54 mm; ComponentLink1Description: Manufacturer Link; ComponentLink1URL: http://www.intersil.com/cda/home/
footprint MDP0010 (DIP; 8 Leads; Row Spacing 7.62 mm; Pitch 2.54 mm)
3D model MDP0010 (DIP; 8 Leads; Row Spacing 7.62 mm; Pitch 2.54 mm)
pins: 1 V+ (power), 2 NC, 3 NC, 4 IN (in), 5 V- (power), 6 NC, 7 NC, 8 OUT (out)
text: 6, 7; 2, 3

## ELH0002H/883B
designator U?
Current Amplifier; Note: Case is electrically isolated.; Published: 8-Jun-2000; LatestRevisionDate: 17-Jul-2002; LatestRevisionNote: Re-released for DXP Platform.; DatasheetVersion: Jul-1991; PackageVersion: 1993; PackageReference: MDP0001; Publisher: Altium Limited; PackageDescription: Can; 8 Leads; Pin Circle Dia. 5.84 mm; Lead Dia. 0.48 mm (max); ComponentLink1Description: Manufacturer Link; ComponentLink1URL: http://www.intersil.com/cda/home/
footprint MDP0001 (Can; 8 Leads; Pin Circle Dia. 5.84 mm; Lead Dia. 0.48 mm (max))
pins: 1 V1+ (power), 2 V2+ (power), 3 NC, 4 OUT (out), 5 NC, 6 V2- (power), 7 V1- (power), 8 IN (in)
text: 3, 5

## ELH0033G/883B
designator U?
Fast Buffer Amplifier; Note: Case is electrically isolated.; Published: 8-Jun-2000; LatestRevisionDate: 17-Jul-2002; LatestRevisionNote: Re-released for DXP Platform.; DatasheetVersion: Jul-1992; PackageVersion: 1993; PackageReference: MDP0002; Publisher: Altium Limited; PackageDescription: Can; 12 Leads; 10.16 mm Square Array; Lead Dia. 0.48 mm (max); ComponentLink1Description: Manufacturer Link; ComponentLink1URL: http://www.intersil.com/cda/home/
footprint MDP0002 (Can; 12 Leads; 10.16 mm Square Array; Lead Dia. 0.48 mm (max))
pins: 1 VC+, 2 NC, 3 NC, 4 NC, 5 IN (in), 6 OS PRE, 7 OS ADJ, 8 NC, 9 VC- (power), 10 V- (power), 11 OUT (out), 12 V+